# EAGLE library part ACS710KLATR-25CB-T (library Allegro_By_element14_Batch_1)
Current Sensor with Integrated Overcurrent Detection
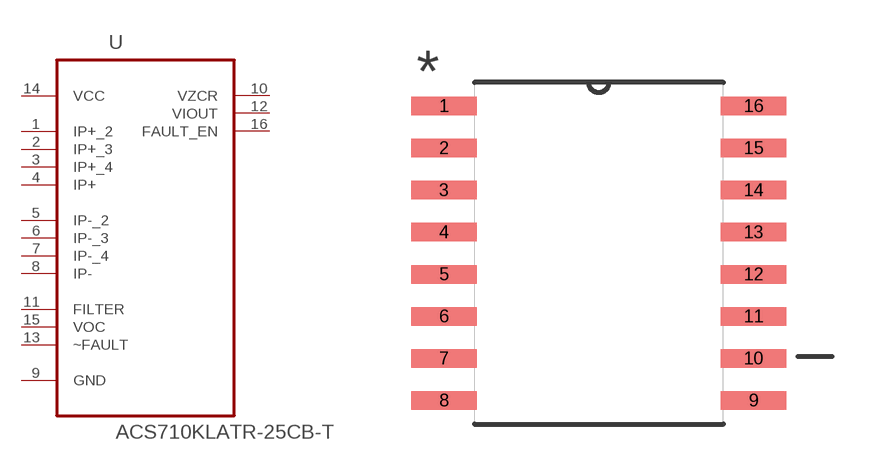
[diagram p31: symbol with the pads of SOIC127P1030X265-16N; footprint SOIC127P1030X265-16N]

Designator prefix U

## ACS710KLATR-25CB-T (MPN: ACS710KLATR-25CB-T; OC_FARNELL: 1791413; OC_NEWARK: 34R2578; PACKAGE: SOICW-16; SUPPLIER: ALLEGRO MICROSYSTEMS)  [SOIC127P1030X265-16N]
1  IP+_2  in
2  IP+_3  in
3  IP+_4  in
4  IP+  in
5  IP-_2  in
6  IP-_3  in
7  IP-_4  in
8  IP-  in
9  GND  pas
10  VZCR  out
11  FILTER  in
12  VIOUT  out
13  ~FAULT  in
14  VCC  pwr
15  VOC  in
16  FAULT_EN  in

## Footprint SOIC127P1030X265-16N (pad centres in mm)
smd 1.981 x 0.559: 1 -4.674,4.445; 2 -4.674,3.175; 3 -4.674,1.905; 4 -4.674,0.635; 5 -4.674,-0.635; 6 -4.674,-1.905; 7 -4.674,-3.175; 8 -4.674,-4.445; 9 4.674,-4.445; 10 4.674,-3.175; 11 4.674,-1.905; 12 4.674,-0.635; 13 4.674,0.635; 14 4.674,1.905; 15 4.674,3.175; 16 4.674,4.445